# EAGLE library part 74LVC126A (library BaseApp)
Non-inverting Line Driver Digikey No:- __568-7665-1-ND__
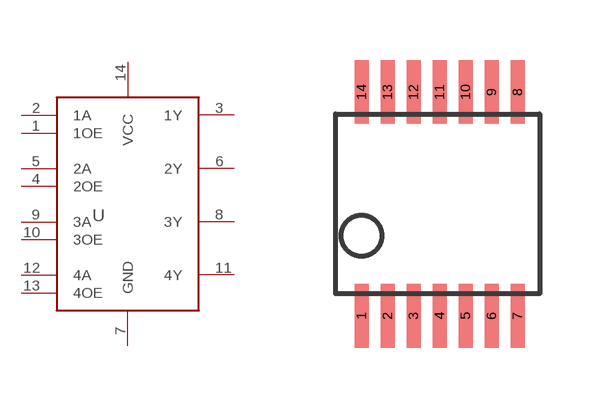
[diagram p67: symbol with the pads of 14TSSOP; footprint 14TSSOP]

Designator prefix -

## 74LVC126A  [14TSSOP]
1  1OE
2  1A
3  1Y
4  2OE
5  2A
6  2Y
7  GND
8  3Y
9  3A
10  3OE
11  4Y
12  4A
13  4OE
14  VCC

## Footprint 14TSSOP (pad centres in mm)
smd 0.35 x 1.6: 1 -1.7,-2.9; 2 -1.05,-2.9; 3 -0.4,-2.9; 4 0.25,-2.9; 5 0.9,-2.9; 6 1.55,-2.9; 7 2.2,-2.9; 8 2.2,2.7; 9 1.55,2.7; 10 0.9,2.7; 11 0.25,2.7; 12 -0.4,2.7; 13 -1.05,2.7; 14 -1.7,2.7